# EAGLE library part 722-839 (library con-wago_7.5mm)
Serie 722, Federleiste mit abgewinkelten Einlötstiften / Series 722, Female connector with angled solder pins Polzahl / Pole No.: 9 Rastermaß / Pitch: 7.5 mm Bemessungsspannung / Rated Voltage: 630 V Nennstrom / Nominal Current: 12 A Lötstiftlänge: / Solder Pin Length: 5 mm Farbe / Color: lichtgrau / light gray Stand: 01.01.2012. Die jeweils aktuellen Daten zu diesem Artikel finden Sie in unserem Produktkatalog, den Sie unter www.wago.com einsehen können. As of: 01/01/2012. Please find the newest data for this article in our product catalogue, which can be viewed under www.wago.com.
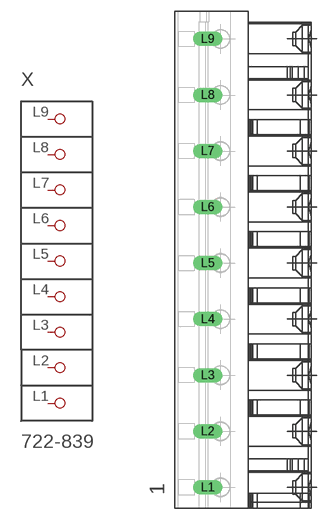
[diagram p43: symbol with the pads of P-722-839; footprint P-722-839]

Designator prefix X

## 722-839  [P-722-839]
L1  P1
L2  P2
L3  P3
L4  P4
L5  P5
L6  P6
L7  P7
L8  P8
L9  P9

## Footprint P-722-839 (pad centres in mm)
drill 1.3 long: L1 -5.078,-30.45; L2 -5.078,-22.95; L3 -5.078,-15.45; L4 -5.078,-7.95; L5 -5.078,-0.45; L6 -5.078,7.05; L7 -5.078,14.55; L8 -5.078,22.05; L9 -5.078,29.55